# Altium footprint library A.Shelestov_PCIE.PcbLib: 3 footprints
Each footprint in its own frame and in the unit in brackets; x right, y up, seen from the top. Pads: shape width x height; smd on the part's side, far side on the other; paste and mask are expansions set on the pad; w line width, h text height; cw(c..) or ccw(c..) is an arc to the next point about the centre after c.
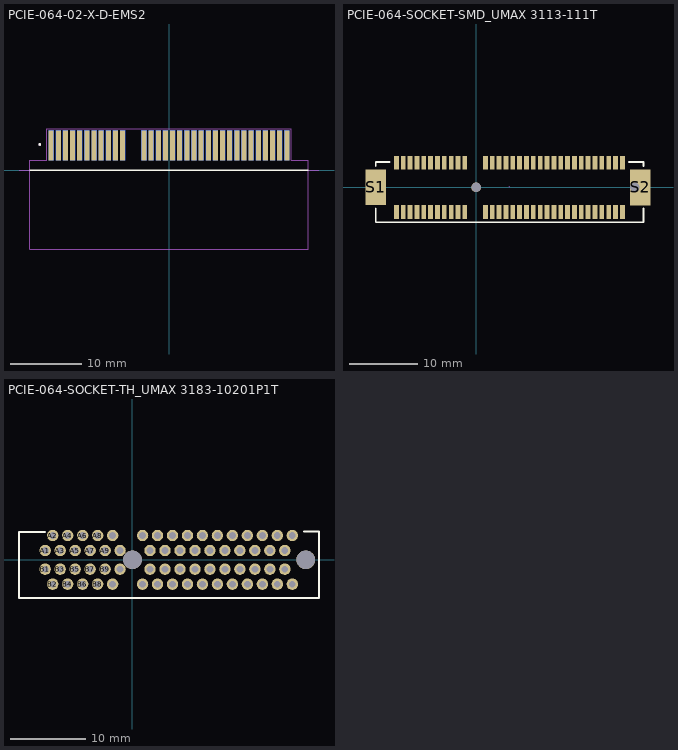
[diagram p0: the footprints below, top view; thin cyan lines are the x and y axes]

## PCIE-064-02-X-D-EMS2 [mm]
pads (64):
  rect 0.7x4.2 smd: A01(-16.5,3.5) A02(-15.5,3.5) A03(-14.5,3.5) A04(-13.5,3.5) A05(-12.5,3.5) A06(-11.5,3.5) A07(-10.5,3.5) A08(-9.5,3.5) A09(-8.5,3.5) A10(-7.5,3.5) A11(-6.5,3.5) A12(-3.5,3.5) A13(-2.5,3.5) A14(-1.5,3.5) A15(-0.5,3.5) A16(0.5,3.5) A17(1.5,3.5) A18(2.5,3.5) A19(3.5,3.5) A20(4.5,3.5) A21(5.5,3.5) A22(6.5,3.5) A23(7.5,3.5) A24(8.5,3.5) A25(9.5,3.5) A26(10.5,3.5) A27(11.5,3.5) A28(12.5,3.5) A29(13.5,3.5) A30(14.5,3.5) A31(15.5,3.5) A32(16.5,3.5)
  rect 0.7x4.2 smd far side: B01(-16.5,3.5) B02(-15.5,3.5) B03(-14.5,3.5) B04(-13.5,3.5) B05(-12.5,3.5) B06(-11.5,3.5) B07(-10.5,3.5) B08(-9.5,3.5) B09(-8.5,3.5) B10(-7.5,3.5) B11(-6.5,3.5) B12(-3.5,3.5) B13(-2.5,3.5) B14(-1.5,3.5) B15(-0.5,3.5) B16(0.5,3.5) B17(1.5,3.5) B18(2.5,3.5) B19(3.5,3.5) B20(4.5,3.5) B21(5.5,3.5) B22(6.5,3.5) B23(7.5,3.5) B24(8.5,3.5) B25(9.5,3.5) B26(10.5,3.5) B27(11.5,3.5) B28(12.5,3.5) B29(13.5,3.5) B30(14.5,3.5) B31(15.5,3.5) B32(16.5,3.5)
Top Overlay:
  circle w0.2: c-18.1,3.65 r0.1
  lines w0.2: -19.5,0 19.5,0
Mechanical 13:
  circle w0.2: c-18.1,3.65 r0.1
  lines w0.1: -21,0 21,0 ; -19.5,-11.05 19.5,-11.05 19.5,0 -19.5,0 -19.5,-11.05
Mechanical 15:
  lines w0.05: -19.5,0 -19.5,1.4 -17.1,1.4 -17.1,5.85 17.1,5.85 17.1,1.4 19.5,1.4 19.5,0 -19.5,0

## PCIE-064-SOCKET-SMD_UMAX 3113-111T [mm]
pads (68):
  rect 0.7x2 smd: A1(-11.65,3.6) A2(-10.65,3.6) A3(-9.65,3.6) A4(-8.65,3.6) A5(-7.65,3.6) A6(-6.65,3.6) A7(-5.65,3.6) A8(-4.65,3.6) A9(-3.65,3.6) A10(-2.65,3.6) A11(-1.65,3.6) A12(1.35,3.6) A13(2.35,3.6) A14(3.35,3.6) A15(4.35,3.6) A16(5.35,3.6) A17(6.35,3.6) A18(7.35,3.6) A19(8.35,3.6) A20(9.35,3.6) A21(10.35,3.6) A22(11.35,3.6) A23(12.35,3.6) A24(13.35,3.6) A25(14.35,3.6) A26(15.35,3.6) A27(16.35,3.6) A28(17.35,3.6) A29(18.35,3.6) A30(19.35,3.6) A31(20.35,3.6) A32(21.35,3.6) B1(-11.65,-3.6) B2(-10.65,-3.6) B3(-9.65,-3.6) B4(-8.65,-3.6) B5(-7.65,-3.6) B6(-6.65,-3.6) B7(-5.65,-3.6) B8(-4.65,-3.6) B9(-3.65,-3.6) B10(-2.65,-3.6) B11(-1.65,-3.6) B12(1.35,-3.6) B13(2.35,-3.6) B14(3.35,-3.6) B15(4.35,-3.6) B16(5.35,-3.6) B17(6.35,-3.6) B18(7.35,-3.6) B19(8.35,-3.6) B20(9.35,-3.6) B21(10.35,-3.6) B22(11.35,-3.6) B23(12.35,-3.6) B24(13.35,-3.6) B25(14.35,-3.6) B26(15.35,-3.6) B27(16.35,-3.6) B28(17.35,-3.6) B29(18.35,-3.6) B30(19.35,-3.6) B31(20.35,-3.6) B32(21.35,-3.6)
  rect 3x5.2 smd: S1(-14.65,0) S2(23.95,-0.03)
  round 1.4 hole 1.4 unplated: ""(0,0) ""(23.15,0)
Top Overlay:
  lines w0.254: -14.65,-3.1 -14.65,-5.1 24.439,-5.1 24.439,-3.1 ; -14.65,3.1 -14.65,3.7 -12.631,3.7 ; 22.32,3.7 24.4,3.7 ; 24.439,3.1 24.439,3.7 24.4,3.7 ; 24.4,3.7 24.4,3.7
Mechanical 15:
  lines w0.003: 4.825,0.108 4.875,0.159

## PCIE-064-SOCKET-TH_UMAX 3183-10201P1T [mil]
pads (66):
  round 60 hole 36: A1(-458.66,49.22) A2(-419.29,127.96) A3(-379.92,49.22) A4(-340.55,127.96) A5(-301.18,49.22) A6(-261.81,127.96) A7(-222.44,49.22) A8(-183.07,127.96) A9(-143.7,49.22) A10(-104.33,127.96) A11(-64.96,49.22) A12(53.15,127.96) A13(92.52,49.22) A14(131.89,127.96) A15(171.26,49.22) A16(210.63,127.96) A17(250,49.22) A18(289.37,127.96) A19(328.74,49.22) A20(368.11,127.96) A21(407.48,49.22) A22(446.85,127.96) A23(486.22,49.22) A24(525.59,127.96) A25(564.96,49.22) A26(604.33,127.96) A27(643.7,49.22) A28(683.07,127.96) A29(722.44,49.22) A30(761.81,127.96) A31(801.18,49.22) A32(840.55,127.96) B1(-458.66,-49.21) B2(-419.29,-127.95) B3(-379.92,-49.21) B4(-340.55,-127.95) B5(-301.18,-49.21) B6(-261.81,-127.95) B7(-222.44,-49.21) B8(-183.07,-127.95) B9(-143.7,-49.21) B10(-104.33,-127.95) B11(-64.96,-49.21) B12(53.15,-127.95) B13(92.52,-49.21) B14(131.89,-127.95) B15(171.26,-49.21) B16(210.63,-127.95) B17(250,-49.21) B18(289.37,-127.95) B19(328.74,-49.21) B20(368.11,-127.95) B21(407.48,-49.21) B22(446.85,-127.95) B23(486.22,-49.21) B24(525.59,-127.95) B25(564.96,-49.21) B26(604.33,-127.95) B27(643.7,-49.21) B28(683.07,-127.95) B29(722.44,-49.21) B30(761.81,-127.95) B31(801.18,-49.21) B32(840.55,-127.95)
  round 98.43 hole 98.43 unplated: ""(0,0) ""(911.42,0)
Top Overlay:
  lines w10: -458.66,145.67 -596.46,145.67 -596.46,-200.78 978.35,-200.78 ; 902.24,150.02 980.94,150.02 ; 980.94,-201.48 980.94,145.02
Mechanical 15:
  lines w0.1: 187.59,-5.88 189.59,-3.88
3D body "pcie-x4_throughhole_UMAX.step": height 433.07, standoff -173.23, extent -570.86,-200.78 964.57,145.68